# Altium footprint library Boost Convertor V2 PCB.PcbLib: 11 footprints
Each footprint in its own frame and in the unit in brackets; x right, y up, seen from the top. Pads: shape width x height; smd on the part's side, far side on the other; paste and mask are expansions set on the pad; w line width, h text height; cw(c..) or ccw(c..) is an arc to the next point about the centre after c.
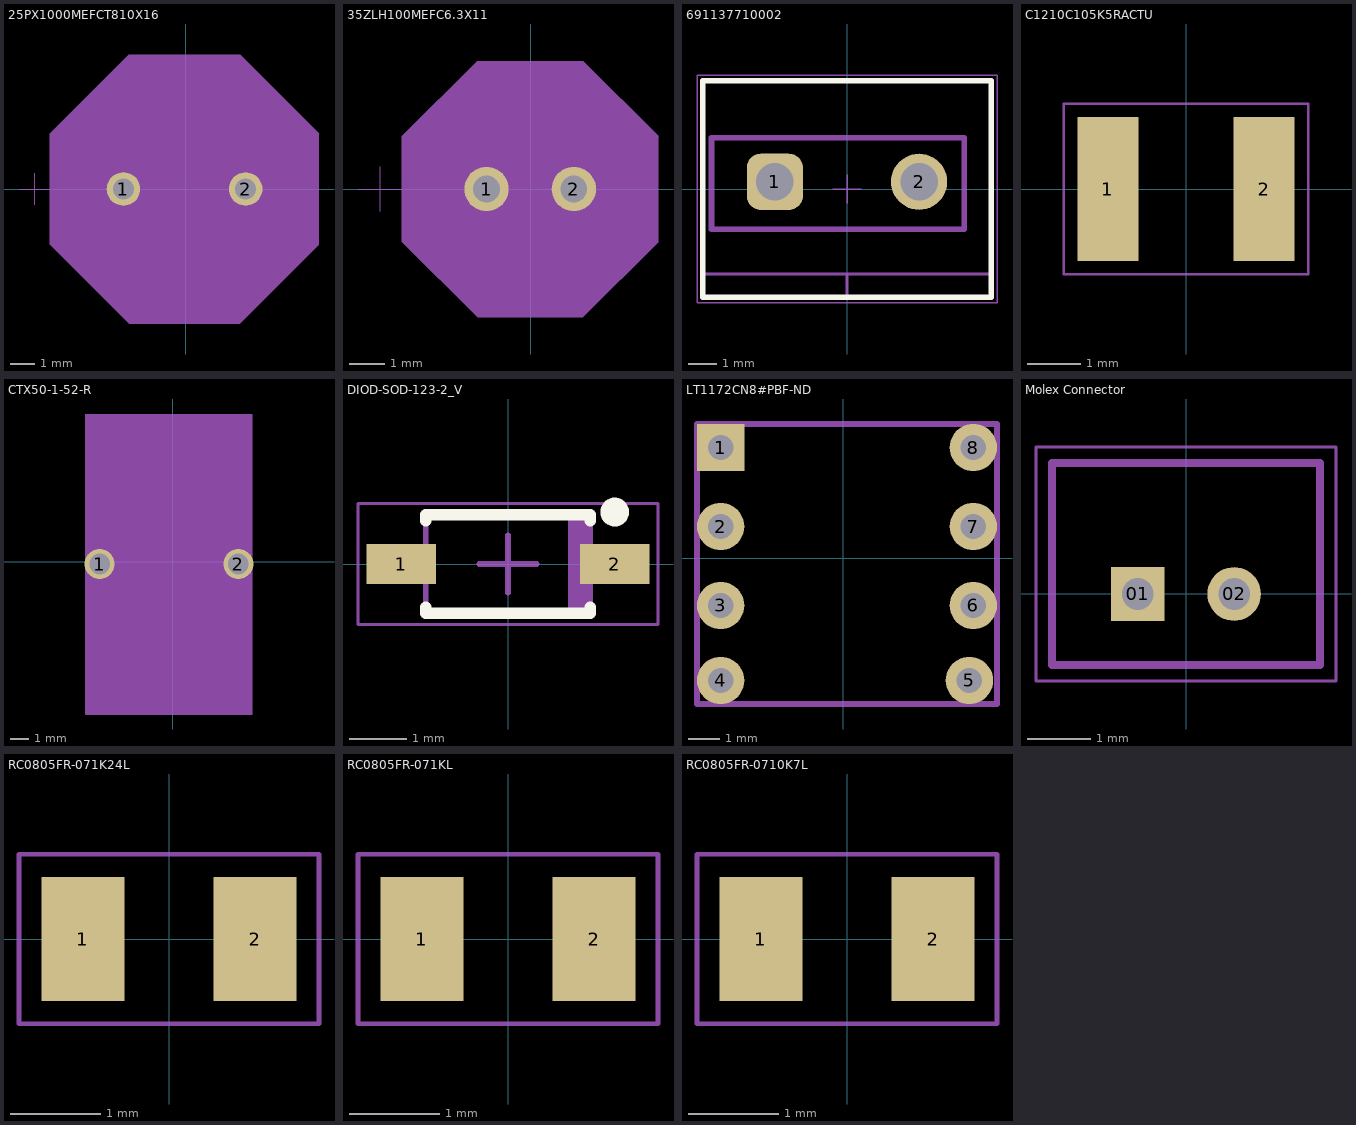
[diagram p0: the footprints below, top view; thin cyan lines are the x and y axes]

## 25PX1000MEFCT810X16 [mil]
pads (2):
  round 54 / inner round 60 / far side round 54 hole 34 paste-99999 mask+0: 1(-100,0) 2(96.85,0)
Mechanical 13:
  circle w0: c-1.57,0 r206.5
  lines w1: -268.07,0 -218.07,0 ; -243.07,-25 -243.07,25
Mechanical 15:
  region: -218.07,89.15 -90.72,216.5 87.57,216.5 214.93,89.15 214.93,-89.15 87.57,-216.5 -90.72,-216.5 -218.07,-89.15
  lines w1: -218.07,-89.15 -90.72,-216.5 87.57,-216.5 214.93,-89.15 214.93,89.15 87.57,216.5 -90.72,216.5 -218.07,89.15 -218.07,-89.15
3D body "CAP_PKPZ_10X16_LOW_RUB.step": height 689.61, standoff -172.01, extent -208.07,-206.02 205.88,206.02
3D body: height 10, standoff 0, extent -100,0 -90,10

## 35ZLH100MEFC6.3X11 [mil]
pads (2):
  round 50 / inner round 60 / far side round 50 hole 30 paste-99999 mask+0: 1(-50,0) 2(48.43,0)
Mechanical 13:
  circle w0: c-0.79,0 r134
  lines w1: -194.79,0 -144.79,0 ; -169.79,-25 -169.79,25
Mechanical 15:
  region: -144.79,59.29 -60.08,144 58.51,144 143.21,59.29 143.21,-59.29 58.51,-144 -60.08,-144 -144.79,-59.29
  lines w1: -144.79,-59.29 -60.08,-144 58.51,-144 143.21,-59.29 143.21,59.29 58.51,144 -60.08,144 -144.79,59.29 -144.79,-59.29
3D body "35ZLH100MEFC6.3X11.step": height 492.13, standoff -748.03, extent -124.8,-123.88 123.23,123.93
3D body: height 10, standoff 0, extent -50,0 -40,10

## 691137710002 [mm]
pads (2):
  rrect50% 1.95x1.95 hole 1.3: 1(-2.5,0.25)
  round 1.95 hole 1.3: 2(2.5,0.25)
Top Overlay:
  lines w0.2: -5,-3.75 -5,3.75 5,3.75 5,-3.75 -5,-3.75
Top 3D Body:
  lines w0.1: -5,-2.95 5,-2.95 ; 0,-3.75 0,-2.95 ; -5,-3.75 -5,3.75 5,3.75 5,-3.75 -5,-3.75
Top Courtyard:
  lines w0.05: -5.2,-3.95 -5.2,3.95 5.2,3.95 5.2,-3.95 -5.2,-3.95
Top Designator:
  text ".Designator" at -7.498,-0.5 h1.5
Top Component Outline:
  lines w0.1: -5,-2.95 5,-2.95 ; 0,-3.75 0,-2.95 ; -5,-3.75 -5,3.75 5,3.75 5,-3.75 -5,-3.75
Mechanical 15:
  lines w0.2: -4.699,-1.397 4.064,-1.397 4.064,1.778 -4.699,1.778 -4.699,-1.397
Top Component Center:
  lines w0.05: -0.5,0 0.5,0 ; 0,-0.5 0,0.5
3D body "691137710002.stp": height 11.6, standoff -3.5, extent -5,-3.75 5,3.75

## C1210C105K5RACTU [mm]
pads (2):
  rect 1.16x2.72 smd: 1(-1.475,0) 2(1.475,0)
Mechanical 15:
  lines w0.05: -2.308,-1.608 -2.308,1.608 2.308,1.608 2.308,-1.608 -2.308,-1.608
3D body "C1210C105K5RACTU.step": height 1.45, standoff 0, extent -1.6,-1.25 1.6,1.25

## CTX50-1-52-R [mil]
pads (2):
  round 64 / inner round 60 / far side round 64 hole 44 paste-99999 mask+0: 1(-155,-5) 2(140,-5)
Mechanical 13:
  lines w1: -184.5,-324 169.5,-324 169.5,314 -184.5,314 -184.5,-324
Mechanical 15:
  region: -184.5,314 169.5,314 169.5,-324 -184.5,-324
  lines w1: -184.5,-324 169.5,-324 169.5,314 -184.5,314 -184.5,-324

## DIOD-SOD-123-2_V [mm]
pads (2):
  rect 1.2x0.7 smd: 1(-1.85,0) 2(1.85,0)
Top Overlay:
  circle w0.25: c1.85,0.9 r0.125
  lines w0.2: -1.425,-0.75 -1.425,-0.85 1.425,-0.85 1.425,-0.75 ; -1.425,0.75 -1.425,0.85 1.425,0.85 1.425,0.75
Mechanical 13:
  rectangle: 1.042,-0.85 1.425,0.85
  lines w0.1: -1.425,-0.85 1.425,-0.85 1.425,0.85 -1.425,0.85 -1.425,-0.85
Mechanical 15:
  lines w0.05: -2.6,-1.05 2.6,-1.05 2.6,1.05 -2.6,1.05 -2.6,-1.05
  lines w0.1: -0.5,0 0.5,0 ; 0,-0.5 0,0.5
3D body: height 1.45, standoff 0, extent -1.425,-0.85 1.425,0.85

## LT1172CN8#PBF-ND [mil]
pads (8):
  rect 60x60 / inner round 60 / far side rect 60x60 hole 32: 1(-155,140)
  round 60 hole 32: 2(-155,40) 3(-155,-60) 4(-155,-155) 5(160,-155) 6(165,-60) 7(165,40) 8(165,140)
Mechanical 15:
  lines w7.87: -185,-185 -185,170 195,170 195,-185 -185,-185
3D body "LT1172CN8_PBF.step": height 200, standoff -125.2, extent -156.22,-193.78 166.22,183.78

## Molex Connector [mm]
pads (2):
  rect 0.85x0.85 / inner round 0.85 / far side rect 0.85x0.85 hole 0.5: 01(-0.762,0)
  round 0.85 hole 0.5: 02(0.762,0)
Mechanical 13:
  lines w0.127: -2.125,-1.125 -2.125,2.075 2.125,2.075 2.125,-1.125 -2.125,-1.125
Mechanical 15:
  lines w0.05: -2.375,-1.375 -2.375,2.325 2.375,2.325 2.375,-1.375 -2.375,-1.375
3D body "0530470210--3DModel-STEP-231308.STEP": height 5.83, standoff -0.67, extent -2.091,-1.092 2.159,2.108

## RC0805FR-071K24L [mm]
pads (2):
  rect 0.92x1.38 smd: 1(-0.955,0) 2(0.955,0)
Mechanical 15:
  lines w0.05: -1.665,-0.94 -1.665,0.94 1.665,0.94 1.665,-0.94 -1.665,-0.94
3D body "RC0805FR-071K24L.step": height 0.6, standoff 0, extent -1,-0.625 1,0.625

## RC0805FR-071KL [mm]
pads (2):
  rect 0.92x1.38 smd: 1(-0.955,0) 2(0.955,0)
Mechanical 15:
  lines w0.05: -1.665,-0.94 -1.665,0.94 1.665,0.94 1.665,-0.94 -1.665,-0.94
3D body "step_temp.STEP": height 0.6, standoff 0, extent -1,-0.625 1,0.625

## RC0805FR-0710K7L [mm]
pads (2):
  rect 0.92x1.38 smd: 1(-0.955,0) 2(0.955,0)
Mechanical 15:
  lines w0.05: -1.665,-0.94 -1.665,0.94 1.665,0.94 1.665,-0.94 -1.665,-0.94
3D body "RC0805FR-0710K7L.step": height 0.6, standoff 0, extent -1,-0.625 1,0.625